# Altium footprint library DFN-8.PcbLib: 1 footprints
Each footprint in its own frame and in the unit in brackets; x right, y up, seen from the top. Pads: shape width x height; smd on the part's side, far side on the other; paste and mask are expansions set on the pad; w line width, h text height; cw(c..) or ccw(c..) is an arc to the next point about the centre after c.
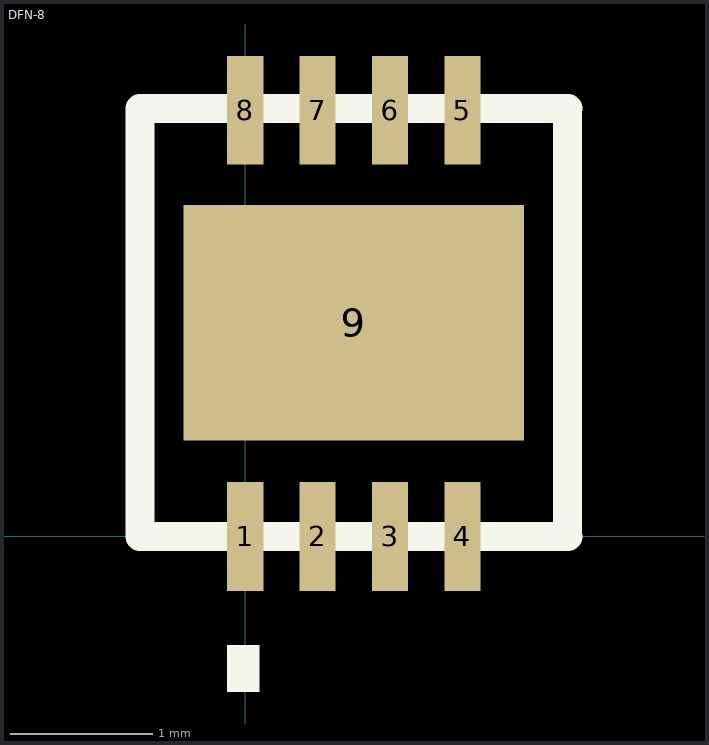
[diagram p0: the footprint, top view; thin cyan lines are the x and y axes]

## DFN-8 [mil]
pads (9):
  rect 10x30 smd: 1(0,0) 2(20,0) 3(40,0) 4(60,0) 5(60,117.7) 6(40,117.7) 7(20,117.7) 8(0,117.7)
  rect 94x65 smd: 9(30,59)
Top Overlay:
  rectangle: -5,-43 4,-30
  lines w8: 89,0 89,118.1 ; 89.1,0 -29,0 -29,118.1 89.1,118.1
3D body: height 32.1, standoff 0.6, extent -29.05,-0.45 89.06,118.45